# EAGLE library part AS-ITM-00405 (library tinycircuits)
IC TXRX RFID 125KHZ 8SOIC
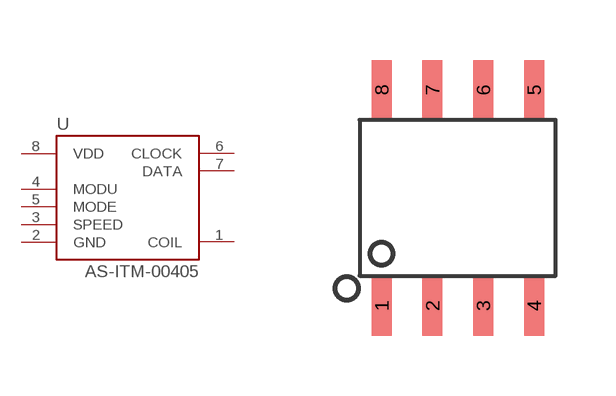
[diagram p166: symbol with the pads of 8-SOIC-N; footprint 8-SOIC-N]

Designator prefix U

## AS-ITM-00405 (PARTNO: AS-ITM-00405; VALUE: MLX90109)  [8-SOIC-N]
1  COIL
2  GND
3  SPEED
4  MODU
5  MODE
6  CLOCK
7  DATA
8  VDD

## Footprint 8-SOIC-N (pad centres in mm)
smd 0.5 x 1.5: 1 -1.905,-2.7; 2 -0.635,-2.7; 3 0.635,-2.7; 4 1.905,-2.7; 5 1.905,2.7; 6 0.635,2.7; 7 -0.635,2.7; 8 -1.905,2.7